# EAGLE library part ASIC (library asic)
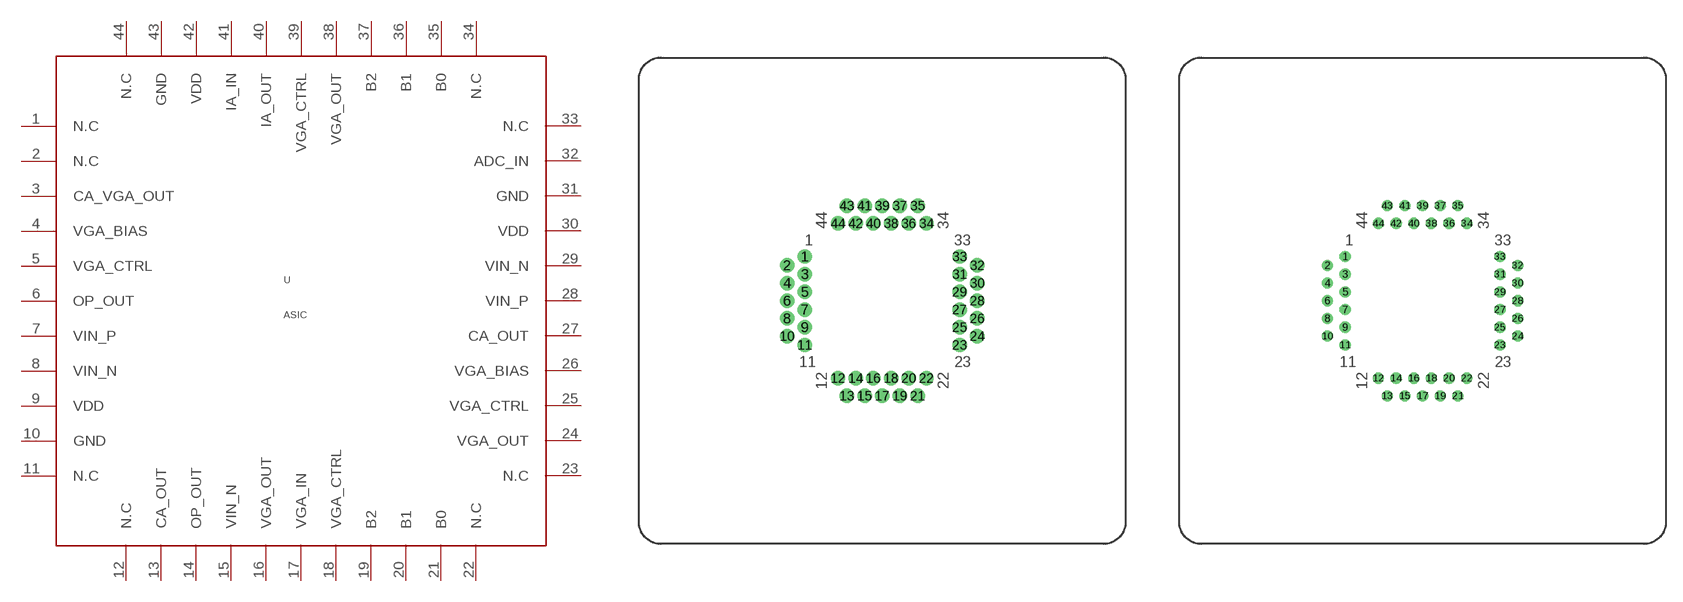
[diagram p0: symbol with the pads of PINTEST; footprints PINTEST, PINTEST_SLIM]

Designator prefix U

## ASIC  [PINTEST]
1  N.C  nc
2  N.C  nc
3  CA_VGA_OUT  out
4  VGA_BIAS  in
5  VGA_CTRL  in
6  OP_OUT  out
7  VIN_P  pwr
8  VIN_N  pwr
9  VDD  pwr
10  GND  pwr
11  N.C  nc
12  N.C  nc
13  CA_OUT  out
14  OP_OUT  out
15  VIN_N  pwr
16  VGA_OUT  out
17  VGA_IN  in
18  VGA_CTRL  in
19  B2  in
20  B1  in
21  B0  in
22  N.C  nc
23  N.C  nc
24  VGA_OUT  out
25  VGA_CTRL  in
26  VGA_BIAS  in
27  CA_OUT  out
28  VIN_P  pwr
29  VIN_N  pwr
30  VDD  pwr
31  GND  pwr
32  ADC_IN  in
33  N.C  nc
34  N.C  nc
35  B0  in
36  B1  in
37  B2  in
38  VGA_OUT  out
39  VGA_CTRL  in
40  IA_OUT  out
41  IA_IN  in
42  VDD  pwr
43  GND  pwr
44  N.C  nc

## ASIC1  [PINTEST_SLIM]
Pads as for PINTEST

## Footprint PINTEST (pad centres in mm)
drill 0.8: 1 -7,4; 2 -8.6,3.2; 3 -7,2.4; 4 -8.6,1.6; 5 -7,0.8; 6 -8.6,0; 7 -7,-0.8; 8 -8.6,-1.6; 9 -7,-2.4; 10 -8.6,-3.2; 11 -7,-4; 12 -4,-7; 13 -3.2,-8.6; 14 -2.4,-7; 15 -1.6,-8.6; 16 -0.8,-7; 17 0,-8.6; 18 0.8,-7; 19 1.6,-8.6; 20 2.4,-7; 21 3.2,-8.6; 22 4,-7; 23 7,-4; 24 8.6,-3.2; 25 7,-2.4; 26 8.6,-1.6; 27 7,-0.8; 28 8.6,0; 29 7,0.8; 30 8.6,1.6; 31 7,2.4; 32 8.6,3.2; 33 7,4; 34 4,7; 35 3.2,8.6; 36 2.4,7; 37 1.6,8.6; 38 0.8,7; 39 0,8.6; 40 -0.8,7; 41 -1.6,8.6; 42 -2.4,7; 43 -3.2,8.6; 44 -4,7

## Footprint PINTEST_SLIM (pad centres in mm)
drill 0.5 pad 0.8: 1 -7,4; 2 -8.6,3.2; 3 -7,2.4; 4 -8.6,1.6; 5 -7,0.8; 6 -8.6,0; 7 -7,-0.8; 8 -8.6,-1.6; 9 -7,-2.4; 10 -8.6,-3.2; 11 -7,-4; 12 -4,-7; 13 -3.2,-8.6; 14 -2.4,-7; 15 -1.6,-8.6; 16 -0.8,-7; 17 0,-8.6; 18 0.8,-7; 19 1.6,-8.6; 20 2.4,-7; 21 3.2,-8.6; 22 4,-7; 23 7,-4; 24 8.6,-3.2; 25 7,-2.4; 26 8.6,-1.6; 27 7,-0.8; 28 8.6,0; 29 7,0.8; 30 8.6,1.6; 31 7,2.4; 32 8.6,3.2; 33 7,4; 34 4,7; 35 3.2,8.6; 36 2.4,7; 37 1.6,8.6; 38 0.8,7; 39 0,8.6; 40 -0.8,7; 41 -1.6,8.6; 42 -2.4,7; 43 -3.2,8.6; 44 -4,7